# EAGLE library part MSF12 (library con-lumberg1)
2.5mm 2,5mm Pinheader Lumberg MSF12
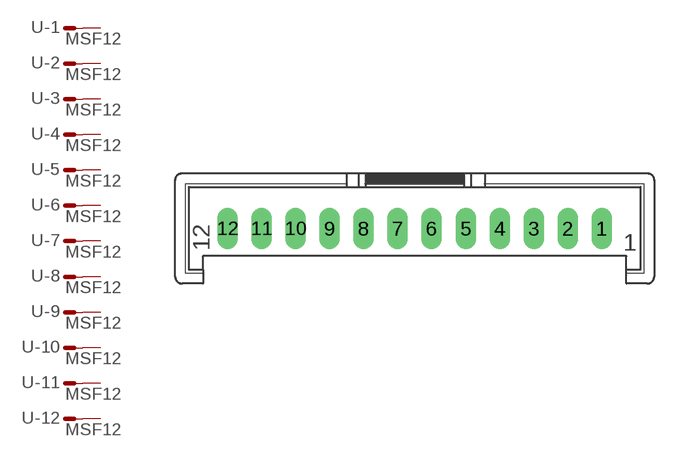
[diagram p31: symbol with the pads of MSF12; footprint MSF12]

Designator prefix -; gates -1=M -2=M -3=M -4=M -5=M -6=M -7=M -8=M -9=M -10=M -11=M -12=M

## MSF12  [MSF12]
1  -1:S  pas
2  -2:S  pas
3  -3:S  pas
4  -4:S  pas
5  -5:S  pas
6  -6:S  pas
7  -7:S  pas
8  -8:S  pas
9  -9:S  pas
10  -10:S  pas
11  -11:S  pas
12  -12:S  pas

## Footprint MSF12 (pad centres in mm)
drill 1.016 long: 1 13.752,-2.54; 2 11.263,-2.54; 3 8.774,-2.54; 4 6.259,-2.54; 5 3.77,-2.54; 6 1.23,-2.54; 7 -1.259,-2.54; 8 -3.774,-2.54; 9 -6.263,-2.54; 10 -8.752,-2.54; 11 -11.252,-2.54; 12 -13.752,-2.54